# Altium schematic symbol library DI_TVS_BIDIR.SchLib: 1 symbol
Pins are listed as number, name and electrical type; pins without a type are passive.

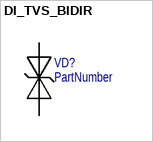
[diagram p0: symbol DI_TVS_BIDIR]

## DI_TVS_BIDIR
designator VD?  (value not drawn)
TVS диод двунаправленный (дезигнаторы 1/2); PartNumber: PartNumber
pins: 1, 2